# EAGLE library part 10268-6212PC (library 3M_By_element14_Batch_1)
CONN MDR RECPT 68POS VERT T/H
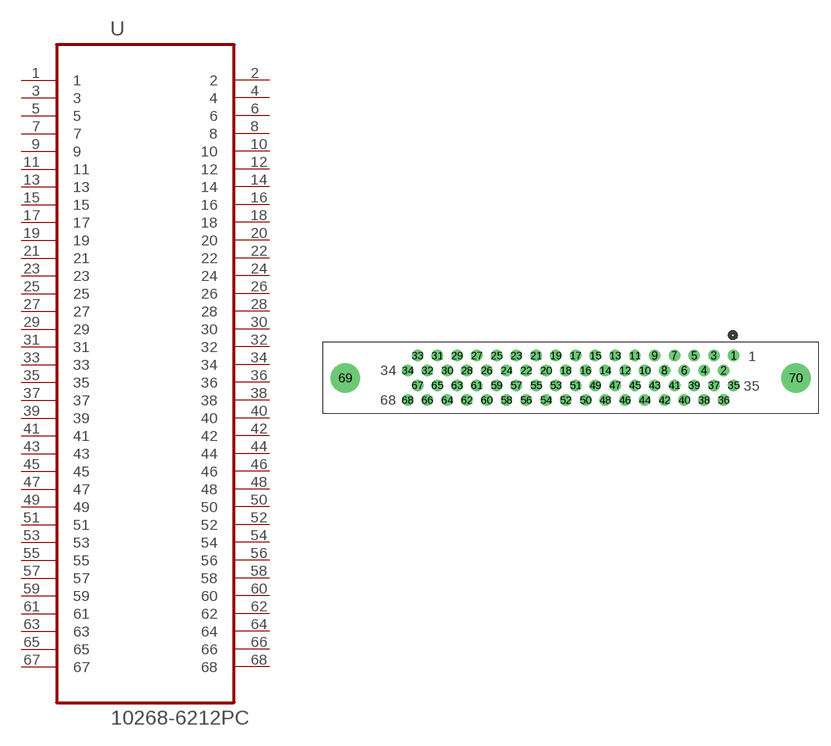
[diagram p11: symbol with the pads of 3M_10268-6212PC; footprint 3M_10268-6212PC]

Designator prefix U

## 10268-6212PC (MPN: 10268-6212PC; OC_FARNELL: 1260950; OC_NEWARK: 69K7229; PACKAGE: MDR RECPT 68POS VERT T/H; SUPPLIER: 3M)  [3M_10268-6212PC]
1  1  pas
2  2  pas
3  3  pas
4  4  pas
5  5  pas
6  6  pas
7  7  pas
8  8  pas
9  9  pas
10  10  pas
11  11  pas
12  12  pas
13  13  pas
14  14  pas
15  15  pas
16  16  pas
17  17  pas
18  18  pas
19  19  pas
20  20  pas
21  21  pas
22  22  pas
23  23  pas
24  24  pas
25  25  pas
26  26  pas
27  27  pas
28  28  pas
29  29  pas
30  30  pas
31  31  pas
32  32  pas
33  33  pas
34  34  pas
35  35  pas
36  36  pas
37  37  pas
38  38  pas
39  39  pas
40  40  pas
41  41  pas
42  42  pas
43  43  pas
44  44  pas
45  45  pas
46  46  pas
47  47  pas
48  48  pas
49  49  pas
50  50  pas
51  51  pas
52  52  pas
53  53  pas
54  54  pas
55  55  pas
56  56  pas
57  57  pas
58  58  pas
59  59  pas
60  60  pas
61  61  pas
62  62  pas
63  63  pas
64  64  pas
65  65  pas
66  66  pas
67  67  pas
68  68  pas

## Footprint 3M_10268-6212PC (pad centres in mm)
drill 0.965: 1 41.91,5.715; 2 40.64,3.81; 3 39.37,5.715; 4 38.1,3.81; 5 36.83,5.715; 6 35.56,3.81; 7 34.29,5.715; 8 33.02,3.81; 9 31.75,5.715; 10 30.48,3.81; 11 29.21,5.715; 12 27.94,3.81; 13 26.67,5.715; 14 25.4,3.81; 15 24.13,5.715; 16 22.86,3.81; 17 21.59,5.715; 18 20.32,3.81; 19 19.05,5.715; 20 17.78,3.81; 21 16.51,5.715; 22 15.24,3.81; 23 13.97,5.715; 24 12.7,3.81; 25 11.43,5.715; 26 10.16,3.81; 27 8.89,5.715; 28 7.62,3.81; 29 6.35,5.715; 30 5.08,3.81; 31 3.81,5.715; 32 2.54,3.81; 33 1.27,5.715; 34 0,3.81; 35 41.91,1.905; 36 40.64,0; 37 39.37,1.905; 38 38.1,0; 39 36.83,1.905; 40 35.56,0; 41 34.29,1.905; 42 33.02,0; 43 31.75,1.905; 44 30.48,0; 45 29.21,1.905; 46 27.94,0; 47 26.67,1.905; 48 25.4,0; 49 24.13,1.905; 50 22.86,0; 51 21.59,1.905; 52 20.32,0; 53 19.05,1.905; 54 17.78,0; 55 16.51,1.905; 56 15.24,0; 57 13.97,1.905; 58 12.7,0; 59 11.43,1.905; 60 10.16,0; 61 8.89,1.905; 62 7.62,0; 63 6.35,1.905; 64 5.08,0; 65 3.81,1.905; 66 2.54,0; 67 1.27,1.905; 68 0,0
drill 2.794: 69 -8.001,2.845; 70 49.911,2.845